# Altium schematic symbol library Connector.SchLib: 1 symbol
Pins are listed as number, name and electrical type; pins without a type are passive.

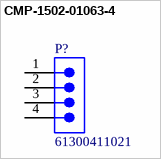
[diagram p0: symbol CMP-1502-01063-4]

## CMP-1502-01063-4
designator P?, comment 61300411021
THT Angled Pin Header WR-PHD, Pitch 2.54 mm, Single Row, 4 pins; Connector Type: Male Pin; Operating Supply Voltage: 250V; Contact Resistance: 20mΩ; Current Rating: 3A; Number of Contacts: 4; Pitch: 2.54mm; Gender: Male; Termination: Solder; Number of Rows: 1; Lead Pitch: 2.54mm; RoHS: Compliant; Number of Pins: 4; Number of Positions: 4; Contact Material: Copper; Contact Plating: Gold; Color: Black; Mount: Through Hole; Contact Mating Length: 5.9944mm
footprint 61300411021 (Pin Header, pitch 2.54 mm, THT, Angled, single row, 4p)
pins: 1, 2, 3, 4